# Altium schematic symbol library OPB840L51.SchLib: 1 symbol
Pins are listed as number, name and electrical type; pins without a type are passive.

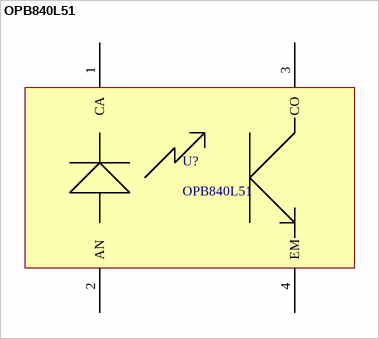
[diagram p0: symbol OPB840L51]

## OPB840L51
designator U?
Slotted Optical Switch, TT electronics
footprint OPB840L51_Housing
pins: 1 CA, 2 AN, 3 CO, 4 EM